# Altium footprint library RC_ControllerV.2.PcbLib: 43 footprints (part 2 of 3)
Each footprint in its own frame and in the unit in brackets; x right, y up, seen from the top. Pads: shape width x height; smd on the part's side, far side on the other; paste and mask are expansions set on the pad; w line width, h text height; cw(c..) or ccw(c..) is an arc to the next point about the centre after c.
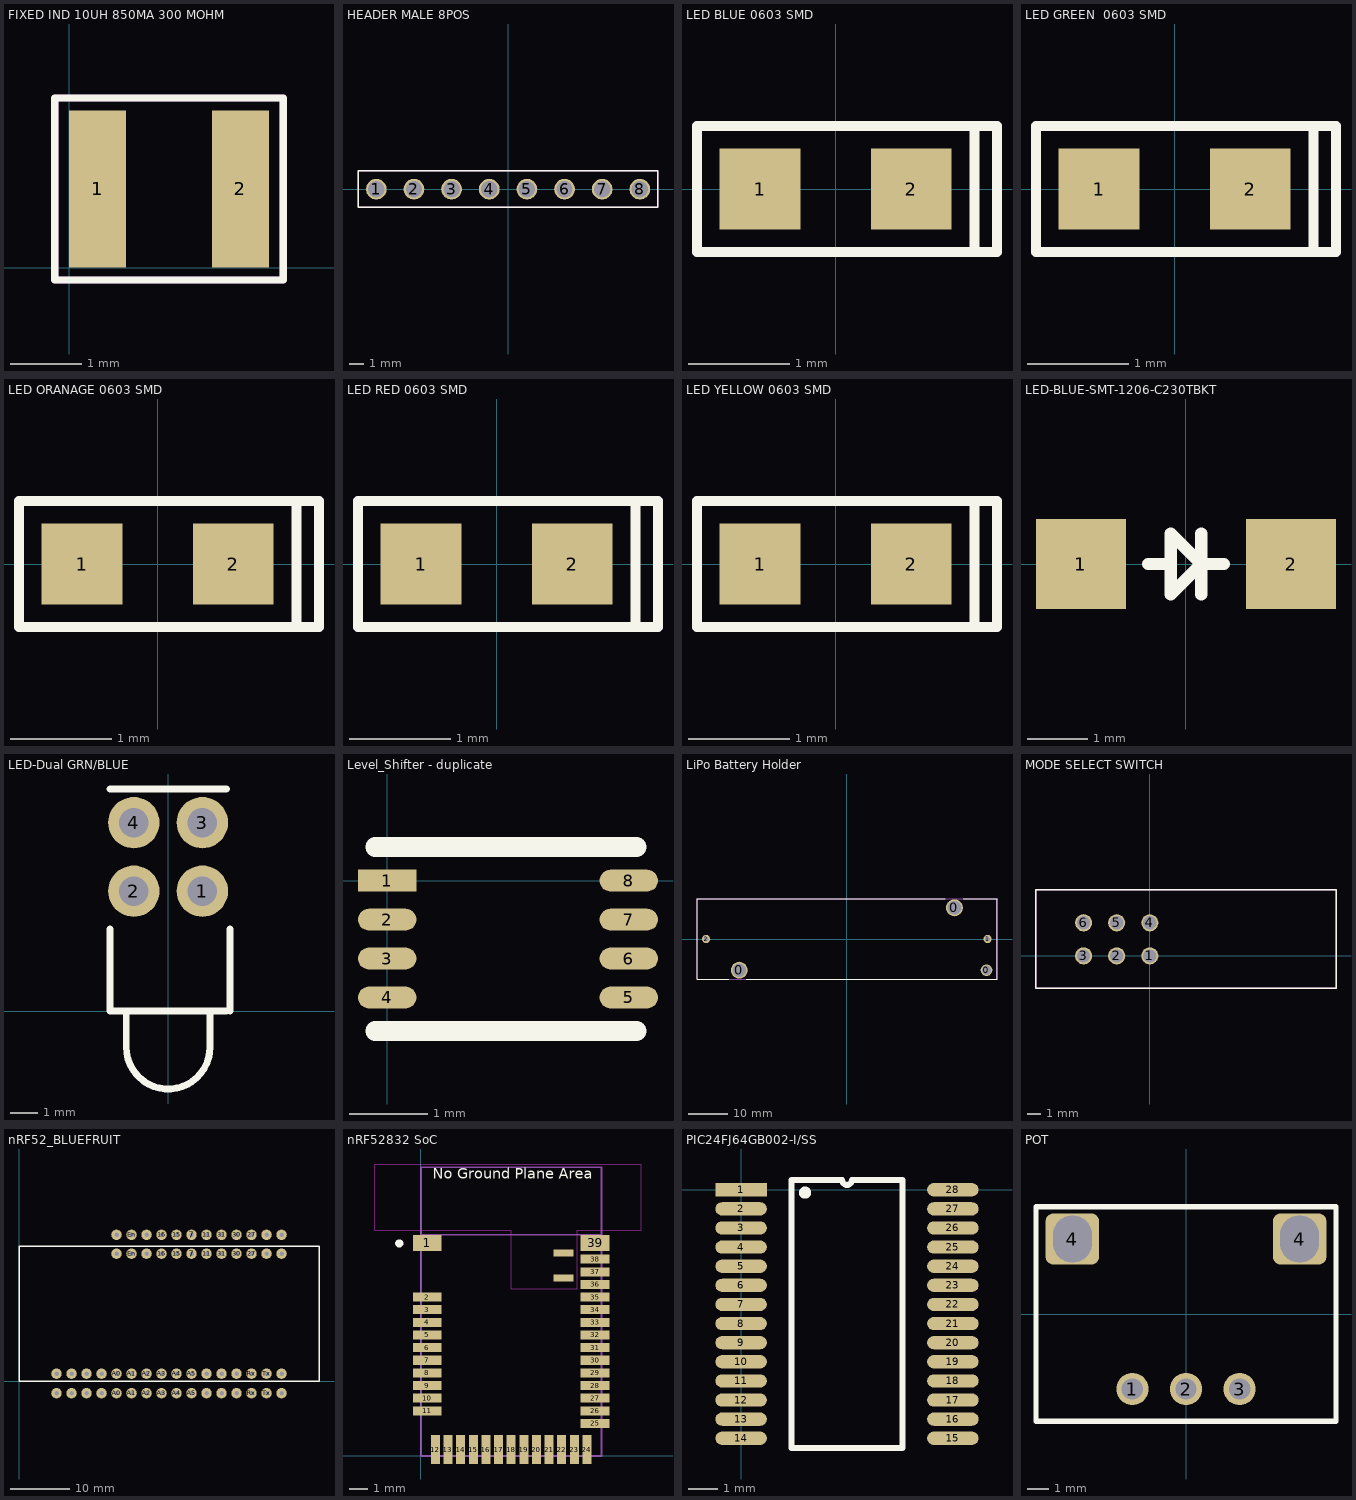
[diagram p1: the footprints below, top view; thin cyan lines are the x and y axes]

## FIXED IND 10UH 850MA 300 MOHM [mm]
pads (2):
  rect 0.8x2.2 smd: 1(0.4,1.1) 2(2.4,1.1)
Top Overlay:
  lines w0.1: -0.2,-0.175 -0.2,2.375 3,2.375 3,-0.175 -0.2,-0.175
Mechanical 29:
  lines w0.1: -0.2,-0.175 -0.2,2.375 3,2.375 3,-0.175 -0.2,-0.175
  text ".Designator" at 0.1,0.775 h1
3D body "STEP-WE-PMI-1008_LP-rev1.stp": height 1.01, standoff 0.01, extent 0.15,0.1 2.65,2.1

## HEADER MALE 8POS [mm]
pads (8):
  round 1.4 hole 1.1: 1(-8.89,0) 2(-6.35,0) 3(-3.81,0) 4(-1.27,0) 5(1.27,0) 6(3.81,0) 7(6.35,0) 8(8.89,0)
Top Overlay:
  lines w0.1: -10.115,-1.225 -10.115,1.25 10.115,1.25 10.115,-1.225 -10.115,-1.225
Mechanical 29:
  lines w0.1: -10.125,-1.225 10.1,-1.225 10.1,1.25 -10.125,1.25 -10.125,-1.225
3D body "65793.stp": height 8.55, standoff -2.99, extent -10.16,-1.25 10.16,1.29

## LED BLUE 0603 SMD [mm]
pads (2):
  rect 0.8x0.8 smd: 1(-0.75,0) 2(0.75,0)
Top Overlay:
  lines w0.1: 1.375,-0.625 1.375,0.625 ; -1.375,-0.625 -1.375,0.625 1.6,0.625 1.6,-0.625 -1.375,-0.625
Mechanical 29:
  lines w0.1: -1.375,-0.625 -1.375,0.625 1.6,0.625 1.6,-0.625 -1.375,-0.625
  text ".Designator" at -1.05,-0.325 h1
3D body "User Library-LTST-C193TBKT.STEP": height 0.35, standoff 0, extent -0.825,-0.4 0.765,0.4

## LED GREEN  0603 SMD [mm]
pads (2):
  rect 0.8x0.8 smd: 1(-0.75,0) 2(0.75,0)
Top Overlay:
  lines w0.1: 1.375,-0.625 1.375,0.625 ; -1.375,-0.625 -1.375,0.625 1.6,0.625 1.6,-0.625 -1.375,-0.625
Mechanical 29:
  lines w0.1: -1.375,-0.625 -1.375,0.625 1.6,0.625 1.6,-0.625 -1.375,-0.625
  text ".Designator" at -1.05,-0.325 h1
3D body "User Library-led_0603LED0603 orange.STEP": height 0.6, standoff 0, extent -0.81,-0.4 0.81,0.4
3D body: height 0.57, standoff 0, extent -0.125,-0.125 0.125,0.125

## LED ORANAGE 0603 SMD [mm]
pads (2):
  rect 0.8x0.8 smd: 1(-0.75,0) 2(0.75,0)
Top Overlay:
  lines w0.1: 1.375,-0.625 1.375,0.625 ; -1.375,-0.625 -1.375,0.625 1.6,0.625 1.6,-0.625 -1.375,-0.625
Mechanical 29:
  lines w0.1: -1.375,-0.625 -1.375,0.625 1.6,0.625 1.6,-0.625 -1.375,-0.625
  text ".Designator" at -1.05,-0.325 h1
3D body "User Library-led_0603LED0603 orange.STEP": height 0.6, standoff 0, extent -0.81,-0.4 0.81,0.4

## LED RED 0603 SMD [mm]
pads (2):
  rect 0.8x0.8 smd: 1(-0.75,0) 2(0.75,0)
Top Overlay:
  lines w0.1: 1.375,-0.625 1.375,0.625 ; -1.375,-0.625 -1.375,0.625 1.6,0.625 1.6,-0.625 -1.375,-0.625
Mechanical 29:
  lines w0.1: -1.375,-0.625 -1.375,0.625 1.6,0.625 1.6,-0.625 -1.375,-0.625
  text ".Designator" at -1.05,-0.325 h1
3D body "User Library-led_0603LED0603 orange.STEP": height 0.6, standoff 0, extent -0.81,-0.4 0.81,0.4
3D body: height 0.57, standoff 0, extent -0.125,-0.125 0.125,0.125

## LED YELLOW 0603 SMD [mm]
pads (2):
  rect 0.8x0.8 smd: 1(-0.75,0) 2(0.75,0)
Top Overlay:
  lines w0.1: 1.375,-0.625 1.375,0.625 ; -1.375,-0.625 1.6,-0.625 1.6,0.625 -1.375,0.625 -1.375,-0.625
Mechanical 29:
  lines w0.1: -1.375,-0.625 1.6,-0.625 1.6,0.625 -1.375,0.625 -1.375,-0.625
  text ".Designator" at -1.05,-0.325 h1
3D body "User Library-led_0603LED0603 orange.STEP": height 0.6, standoff 0, extent -0.81,-0.4 0.81,0.4
3D body: height 0.57, standoff 0, extent -0.125,-0.125 0.125,0.125

## LED-BLUE-SMT-1206-C230TBKT [mm]
pads (2):
  rect 1.5x1.5 smd: 1(-1.75,0) 2(1.75,0)
Top Overlay:
  lines w0.203: -0.635,0 -0.254,0 ; 0.254,-0.508 0.254,0.508 ; 0.635,0 0.254,0 ; 0.254,0 -0.254,-0.508 -0.254,0.508 0.254,0
3D body "Carl LED.STEP": height 1.12, standoff 0.02, extent -1.6,-0.8 1.6,0.8

## LED-Dual GRN/BLUE [mil] "350-3113-ND"
pads (4):
  round 75 hole 43: 1(50,175) 2(-50,175) 3(50,275) 4(-50,275)
Top Overlay:
  lines w10: -85,120 -85,0 85,0 ; -85,324 85,324 ; -61,-52.5 ccw(c0,-52.5) 61,-52.5 ; -61,-52 -61,0 ; 61,-52 61,0 ; 90,0 90,120
3D body "Dialight5530128F.STEP": height 380.5, standoff -149.5, extent -85.35,-115.12 84.65,317.88

## Level_Shifter - duplicate [mm]
pads (8):
  rect 0.75x0.28 smd: 1(0,0)
  oval 0.75x0.28 smd: 2(0,-0.5) 3(0,-1) 4(0,-1.5) 5(3.1,-1.5) 6(3.1,-1) 7(3.1,-0.5) 8(3.1,0)
Top Overlay:
  lines w0.254: -0.152,-1.93 3.2,-1.93 ; -0.152,0.432 3.2,0.432
3D body "DCU8.step": height 0.9, standoff 0.01, extent -0.051,-1.803 3.149,0.305

## LiPo Battery Holder [mm]
pads (5):
  round 4.35 hole 3.55: 0(-27.6,-8) 0(27.6,8)
  round 3 hole 2.39: 0(35.82,-8)
  round 2.12 hole 1.32: 1(36.11,0) 2(-36.11,0)
Top Overlay:
  lines w0.254: -38.4,10.325 -38.4,-10.325 -30.325,-10.325 ; -38.375,10.35 25.275,10.35 ; -25.85,-10.325 38.525,-10.325 38.525,10.325 29.925,10.325
Mechanical 29:
  lines w0.254: -38.45,-10.325 -38.45,10.325 38.525,10.325 38.4,10.2 38.4,-10.35 38.375,-10.325 -38.45,-10.325
  text ".designator" at -30.975,-0.475 h1.52
3D body "keystone-PN1043.STEP": height 14.86, standoff -3.56, extent -38.429,-10.325 38.625,10.325

## MODE SELECT SWITCH [mm]
pads (6):
  round 1.3 hole 1: 1(0,0) 2(-2.5,0) 3(-5,0) 4(0,2.5) 5(-2.5,2.5) 6(-5,2.5)
Top Overlay:
  lines w0.1: -8.6,-2.45 -8.6,5 14.075,5 14.075,-2.45 -8.6,-2.45
Mechanical 29:
  lines w0.1: -8.6,-2.45 14.075,-2.45 14.075,5 -8.6,5 -8.6,-2.45
  text ".Designator" at -6.1,1.175 h0.6
3D body "E-Switch_PBH2UOANAGX.STEP": height 9.11, standoff -3.99, extent -8.5,-2.375 21.79,4.925

## nRF52_BLUEFRUIT [mil]
pads (56):
  round 70 hole 30: 3V3(350,-80) 3V3(350,50) 3V3(450,-80) 3V3(450,50) 7(1150,850) 7(1150,975) 11(1250,850) 11(1250,975) 15(1050,850) 15(1050,975) 16(950,850) 16(950,975) 27(1550,850) 27(1550,975) 30(1450,850) 30(1450,975) 31(1350,850) 31(1350,975) !RESET(250,-80) !RESET(250,50) A0(650,-80) A0(650,50) A1(750,-80) A1(750,50) A2(850,-80) A2(850,50) A3(950,-80) A3(950,50) A4(1050,-80) A4(1050,50) A5(1150,-80) A5(1150,50) DFU(1750,-80) DFU(1750,50) En(750,850) En(750,975) GND(550,-80) GND(550,50) MISO(1450,-80) MISO(1450,50) MOSI(1350,-80) MOSI(1350,50) Rx(1550,-80) Rx(1550,50) SCK(1250,-80) SCK(1250,50) SCL(1650,850) SCL(1650,975) SDA(1750,850) SDA(1750,975) Tx(1650,-80) Tx(1650,50) VBAT(650,850) VBAT(650,975) VBUS(850,850) VBUS(850,975)
Top Overlay:
  lines w10: 0,0 2000,0 2000,900 0,900 0,0
3D body: height 381.89, standoff 0, extent 2.96,5.08 2002.96,905.67

## nRF52832 SoC [mm]
pads (41):
  rect 1.6x0.9 smd: 1(0.35,11.8) 39(9.65,11.8)
  rect 1.6x0.5 smd: 2(0.35,8.8) 3(0.35,8.1) 4(0.35,7.4) 5(0.35,6.7) 6(0.35,6) 7(0.35,5.3) 8(0.35,4.6) 9(0.35,3.9) 10(0.35,3.2) 11(0.35,2.5) 25(9.65,1.8) 26(9.65,2.5) 27(9.65,3.2) 28(9.65,3.9) 29(9.65,4.6) 30(9.65,5.3) 31(9.65,6) 32(9.65,6.7) 33(9.65,7.4) 34(9.65,8.1) 35(9.65,8.8) 36(9.65,9.5) 37(9.65,10.2) 38(9.65,10.9)
  rect 0.5x1.6 smd: 12(0.8,0.35) 13(1.5,0.35) 14(2.2,0.35) 15(2.9,0.35) 16(3.6,0.35) 17(4.3,0.35) 18(5,0.35) 19(5.7,0.35) 20(6.4,0.35) 21(7.1,0.35) 22(7.8,0.35) 23(8.5,0.35) 24(9.2,0.35)
  rect 1.1x0.4 smd: 40(7.9,11.25) 41(7.9,9.85)
Top Overlay:
  circle w0.254: c-1.2,11.775 r0.1
  text "No Ground Plane Area" at 0.65,15.175 h1
Keep-Out Layer:
  lines w0.01: -2.55,12.5 -2.55,16.175 12.2,16.175 12.2,12.5 8.65,12.5 8.65,9.25 5,9.25 5,12.5 -2.55,12.5
Mechanical 29:
  lines w0.1: 0,12.225 0.025,12.25 10,12.25 ; 0,0 0,16 10,16 10,0 0,0

## PIC24FJ64GB002-I/SS [mm]
pads (28):
  rect 1.75x0.45 smd: 1(0,0)
  oval 1.75x0.45 smd: 2(0,-0.65) 3(0,-1.3) 4(0,-1.95) 5(0,-2.6) 6(0,-3.25) 7(0,-3.9) 8(0,-4.55) 9(0,-5.2) 10(0,-5.85) 11(0,-6.5) 12(0,-7.15) 13(0,-7.8) 14(0,-8.45) 15(7.2,-8.45) 16(7.2,-7.8) 17(7.2,-7.15) 18(7.2,-6.5) 19(7.2,-5.85) 20(7.2,-5.2) 21(7.2,-4.55) 22(7.2,-3.9) 23(7.2,-3.25) 24(7.2,-2.6) 25(7.2,-1.95) 26(7.2,-1.3) 27(7.2,-0.65) 28(7.2,0)
Top Overlay:
  circle w0.254: c2.175,-0.1 r0.079
  lines w0.2: 1.71,-8.775 1.71,0.325 3.438,0.325 ccw(c3.6,0.325) 3.762,0.325 5.49,0.325 5.49,-8.775 1.71,-8.775
3D body "User Library-ssop28_model.STEP": height 2.01, standoff 0.01, extent -0.284,-9.323 7.516,0.877

## POT [mm]
pads (5):
  round 1.5 hole 1: 1(-2.5,-3.5) 2(0,-3.5) 3(2.5,-3.5)
  rrect30% 2.5x2.4 hole 2.2 slot 1.8 at 0 deg: 4(-5.3,3.5) 4(5.3,3.5)
Top Overlay:
  lines w0.254: -7,-5 7,-5 7,5 -7,5 -7,-5